# Altium schematic symbol library Reference_Voltage.SchLib: 263 symbols (part 1 of 3)
Pins are listed as number, name and electrical type; pins without a type are passive.

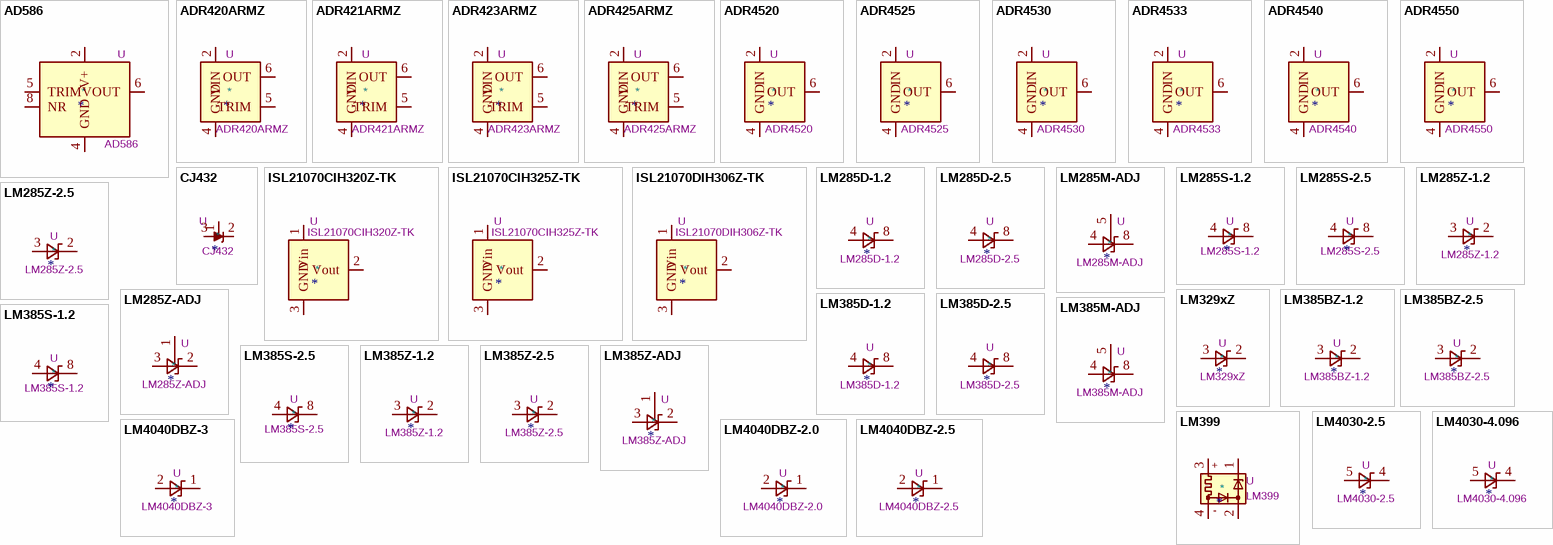
[diagram p0: symbols AD586 to LM4040DBZ-3]

## AD586
designator *  value AD586  Reference: U
ki_keywords: voltage reference; ki_description: High Precision, 5V Reference, DIP-8, SO-8; ki_fp_filters: DIP*W7.62mm* SOIC*3.9x4.9mm*P1.27mm*; Datasheet: https://www.analog.com/media/en/technical-documentation/data-sheets/AD586.pdf
pins: 1 NC hidden, 2 V+, 3 NC hidden, 4 GND, 5 TRIM, 6 VOUT, 7 NC hidden, 8 NR

## ADR420ARMZ
designator *  value ADR420ARMZ  Reference: U
ki_keywords: voltage reference Ultraprecision Low Noise; ki_description: 2.048V Voltage Reference, Ultraprecision, Low Noise, MSOP-8; ki_fp_filters: MSOP*3x3mm*P0.65mm*; Footprint: Package_SO:MSOP-8_3x3mm_P0.65mm; Datasheet: https://www.analog.com/media/en/technical-documentation/data-sheets/adr420_421_423_425.pdf
pins: 1 TP hidden, 2 VIN, 3 NC hidden, 4 GND, 5 TRIM, 6 OUT, 7 NC hidden, 8 TP hidden

## ADR421ARMZ
designator *  value ADR421ARMZ  Reference: U
ki_keywords: 2.5V voltage reference; ki_description: 2.50V Voltage Reference, Ultraprecision, Low Noise, MSOP-8; ki_fp_filters: MSOP*3x3mm*P0.65mm*; Footprint: Package_SO:MSOP-8_3x3mm_P0.65mm; Datasheet: https://www.analog.com/media/en/technical-documentation/data-sheets/adr420_421_423_425.pdf
pins: 1 TP hidden, 2 VIN, 3 NC hidden, 4 GND, 5 TRIM, 6 OUT, 7 NC hidden, 8 TP hidden

## ADR423ARMZ
designator *  value ADR423ARMZ  Reference: U
ki_keywords: 3V voltage reference; ki_description: 3.00V Voltage Reference, Ultraprecision, Low Noise, MSOP-8; ki_fp_filters: MSOP*3x3mm*P0.65mm*; Footprint: Package_SO:MSOP-8_3x3mm_P0.65mm; Datasheet: https://www.analog.com/media/en/technical-documentation/data-sheets/adr420_421_423_425.pdf
pins: 1 TP hidden, 2 VIN, 3 NC hidden, 4 GND, 5 TRIM, 6 OUT, 7 NC hidden, 8 TP hidden

## ADR425ARMZ
designator *  value ADR425ARMZ  Reference: U
ki_keywords: 5V voltage reference; ki_description: 5.00V Voltage Reference, Ultraprecision, Low Noise, MSOP-8; ki_fp_filters: MSOP*3x3mm*P0.65mm*; Footprint: Package_SO:MSOP-8_3x3mm_P0.65mm; Datasheet: https://www.analog.com/media/en/technical-documentation/data-sheets/adr420_421_423_425.pdf
pins: 1 TP hidden, 2 VIN, 3 NC hidden, 4 GND, 5 TRIM, 6 OUT, 7 NC hidden, 8 TP hidden

## ADR4520
designator *  value ADR4520  Reference: U
ki_keywords: vref; ki_description: 2.048V, Ultralow Noise, High Accuracy Voltage Reference, SOIC-8; ki_fp_filters: SOIC*3.9x4.9mm*P1.27mm*; Footprint: Package_SO:SOIC-8_3.9x4.9mm_P1.27mm; Datasheet: https://www.analog.com/media/en/technical-documentation/data-sheets/ADR4520_4525_4530_4533_4540_4550.pdf
pins: 1 NC hidden, 2 IN, 3 NC hidden, 4 GND, 5 NC hidden, 6 OUT, 7 NC hidden, 8 NC hidden

## ADR4525
designator *  value ADR4525  Reference: U
ki_keywords: vref; ki_description: 2.5V, Ultralow Noise, High Accuracy Voltage Reference, SOIC-8; ki_fp_filters: SOIC*3.9x4.9mm*P1.27mm*; Footprint: Package_SO:SOIC-8_3.9x4.9mm_P1.27mm; Datasheet: https://www.analog.com/media/en/technical-documentation/data-sheets/ADR4520_4525_4530_4533_4540_4550.pdf
pins: 1 NC hidden, 2 IN, 3 NC hidden, 4 GND, 5 NC hidden, 6 OUT, 7 NC hidden, 8 NC hidden

## ADR4530
designator *  value ADR4530  Reference: U
ki_keywords: vref; ki_description: 3.0V,  Ultralow Noise, High Accuracy Voltage Reference, SOIC-8; ki_fp_filters: SOIC*3.9x4.9mm*P1.27mm*; Footprint: Package_SO:SOIC-8_3.9x4.9mm_P1.27mm; Datasheet: https://www.analog.com/media/en/technical-documentation/data-sheets/ADR4520_4525_4530_4533_4540_4550.pdf
pins: 1 NC hidden, 2 IN, 3 NC hidden, 4 GND, 5 NC hidden, 6 OUT, 7 NC hidden, 8 NC hidden

## ADR4533
designator *  value ADR4533  Reference: U
ki_keywords: vref; ki_description: 3.3V,  Ultralow Noise, High Accuracy Voltage Reference, SOIC-8; ki_fp_filters: SOIC*3.9x4.9mm*P1.27mm*; Footprint: Package_SO:SOIC-8_3.9x4.9mm_P1.27mm; Datasheet: https://www.analog.com/media/en/technical-documentation/data-sheets/ADR4520_4525_4530_4533_4540_4550.pdf
pins: 1 NC hidden, 2 IN, 3 NC hidden, 4 GND, 5 NC hidden, 6 OUT, 7 NC hidden, 8 NC hidden

## ADR4540
designator *  value ADR4540  Reference: U
ki_keywords: vref; ki_description: 4.096V,  Ultralow Noise, High Accuracy Voltage Reference, SOIC-8; ki_fp_filters: SOIC*3.9x4.9mm*P1.27mm*; Footprint: Package_SO:SOIC-8_3.9x4.9mm_P1.27mm; Datasheet: https://www.analog.com/media/en/technical-documentation/data-sheets/ADR4520_4525_4530_4533_4540_4550.pdf
pins: 1 NC hidden, 2 IN, 3 NC hidden, 4 GND, 5 NC hidden, 6 OUT, 7 NC hidden, 8 NC hidden

## ADR4550
designator *  value ADR4550  Reference: U
ki_keywords: vref; ki_description: 5.0V,  Ultralow Noise, High Accuracy Voltage Reference, SOIC-8; ki_fp_filters: SOIC*3.9x4.9mm*P1.27mm*; Footprint: Package_SO:SOIC-8_3.9x4.9mm_P1.27mm; Datasheet: https://www.analog.com/media/en/technical-documentation/data-sheets/ADR4520_4525_4530_4533_4540_4550.pdf
pins: 1 NC hidden, 2 IN, 3 NC hidden, 4 GND, 5 NC hidden, 6 OUT, 7 NC hidden, 8 NC hidden

## CJ432
designator *  value CJ432  Reference: U
ki_keywords: diode device shunt regulator; ki_description: Shunt Regulator, SOT-23; ki_fp_filters: SOT?23*; Footprint: Package_TO_SOT_SMD:SOT-23; Datasheet: http://www.cj-elec.com/txUpfile/20134181474991806.pdf
pins: 1 REF, 2 K, 3 A

## ISL21070CIH320Z-TK
designator *  value ISL21070CIH320Z-TK  Reference: U
ki_keywords: Micropower Voltage Reference 2.0V; ki_description: 2.0V 25μA Micropower Voltage Reference, SOT-23; ki_fp_filters: SOT?23*; Footprint: Package_TO_SOT_SMD:SOT-23; Datasheet: http://www.intersil.com/content/dam/Intersil/documents/fn75/fn7599.pdf
pins: 1 Vin, 2 Vout, 3 GND

## ISL21070CIH325Z-TK
designator *  value ISL21070CIH325Z-TK  Reference: U
ki_keywords: Micropower Voltage Reference 2.5V; ki_description: 2.5V 25μA Micropower Voltage Reference, SOT-23; ki_fp_filters: SOT?23*; Footprint: Package_TO_SOT_SMD:SOT-23; Datasheet: http://www.intersil.com/content/dam/Intersil/documents/fn75/fn7599.pdf
pins: 1 Vin, 2 Vout, 3 GND

## ISL21070DIH306Z-TK
designator *  value ISL21070DIH306Z-TK  Reference: U
ki_keywords: Micropower Voltage Reference 0.6V; ki_description: 0.6V 25μA Micropower Voltage Reference, SOT-23; ki_fp_filters: SOT?23*; Footprint: Package_TO_SOT_SMD:SOT-23; Datasheet: http://www.intersil.com/content/dam/Intersil/documents/fn75/fn7599.pdf
pins: 1 Vin, 2 Vout, 3 GND

## LM285D-1.2
designator *  value LM285D-1.2  Reference: U
ki_keywords: diode device voltage reference; ki_description: 1.235V Micropower Voltage Reference Diodes, SO-8; ki_fp_filters: SOIC?8*3.9x4.9m*P1.27mm*; Footprint: Package_SO:SOIC-8_3.9x4.9mm_P1.27mm; Datasheet: http://www.onsemi.com/pub_link/Collateral/LM285-D.PDF
pins: 4 A, 8 K

## LM285D-2.5
designator *  value LM285D-2.5  Reference: U
ki_keywords: diode device voltage reference; ki_description: 2.500V Micropower Voltage Reference Diodes, SO-8; ki_fp_filters: SOIC?8*3.9x4.9m*P1.27mm*; Footprint: Package_SO:SOIC-8_3.9x4.9mm_P1.27mm; Datasheet: http://www.onsemi.com/pub_link/Collateral/LM285-D.PDF
pins: 4 A, 8 K

## LM285M-ADJ
designator *  value LM285M-ADJ  Reference: U
ki_keywords: diode device voltage reference; ki_description: Adjustable Micropower Voltage Reference Diodes, SO-8; ki_fp_filters: SOIC?8*3.9x4.9m*P1.27mm*; Footprint: Package_SO:SOIC-8_3.9x4.9mm_P1.27mm; Datasheet: http://www.ti.com/lit/ds/symlink/lm185-adj.pdf
pins: 4 A, 5 FB, 8 K

## LM285S-1.2
designator *  value LM285S-1.2  Reference: U
ki_keywords: diode device voltage reference; ki_description: 1.235V Micropower Voltage Reference Diodes, SO-8; ki_fp_filters: SOIC?8*3.9x4.9m*P1.27mm*; Footprint: Package_SO:SOIC-8_3.9x4.9mm_P1.27mm; Datasheet: https://www.analog.com/media/en/technical-documentation/data-sheets/185fc.pdf
pins: 4 A, 6 K hidden, 8 K

## LM285S-2.5
designator *  value LM285S-2.5  Reference: U
ki_keywords: diode device voltage reference; ki_description: 2.500V Micropower Voltage Reference Diodes, SO-8; ki_fp_filters: SOIC?8*3.9x4.9m*P1.27mm*; Footprint: Package_SO:SOIC-8_3.9x4.9mm_P1.27mm; Datasheet: https://www.analog.com/media/en/technical-documentation/data-sheets/185fc.pdf
pins: 4 A, 6 K hidden, 8 K

## LM285Z-1.2
designator *  value LM285Z-1.2  Reference: U
ki_keywords: diode device voltage reference; ki_description: 1.235V Micropower Voltage Reference Diodes, TO-92; ki_fp_filters: TO?92*Inline*; Footprint: Package_TO_SOT_THT:TO-92_Inline; Datasheet: http://www.onsemi.com/pub_link/Collateral/LM285-D.PDF
pins: 2 K, 3 A

## LM285Z-2.5
designator *  value LM285Z-2.5  Reference: U
ki_keywords: diode device voltage reference; ki_description: 2.5V Micropower Voltage Reference Diodes, TO-92; ki_fp_filters: TO?92*Inline*; Footprint: Package_TO_SOT_THT:TO-92_Inline; Datasheet: http://www.onsemi.com/pub_link/Collateral/LM285-D.PDF
pins: 2 K, 3 A

## LM285Z-ADJ
designator *  value LM285Z-ADJ  Reference: U
ki_keywords: diode device voltage reference; ki_description: Adjustable Micropower Voltage Reference Diodes, TO-92; ki_fp_filters: TO?92*; Footprint: Package_TO_SOT_THT:TO-92_Inline; Datasheet: http://www.ti.com/lit/ds/symlink/lm185-adj.pdf
pins: 1 FB, 2 K, 3 A

## LM329xZ
designator *  value LM329xZ  Reference: U
ki_keywords: diode device voltage reference shunt; ki_description: 6.9V Precision Voltage Reference, TO-92; ki_fp_filters: TO?92*; Footprint: Package_TO_SOT_THT:TO-92_Inline; Datasheet: https://www.analog.com/media/en/technical-documentation/data-sheets/129329fd.pdf
pins: 1 NC hidden, 2 K, 3 A

## LM385BZ-1.2
designator *  value LM385BZ-1.2  Reference: U
ki_keywords: diode device voltage reference; ki_description: 1.235V Micropower Voltage Reference Diodes, TO-92; ki_fp_filters: TO?92*Inline*; Footprint: Package_TO_SOT_THT:TO-92_Inline; Datasheet: http://www.onsemi.com/pub_link/Collateral/LM285-D.PDF
pins: 2 K, 3 A

## LM385BZ-2.5
designator *  value LM385BZ-2.5  Reference: U
ki_keywords: diode device voltage reference; ki_description: 2.5V Micropower Voltage Reference Diodes, TO-92; ki_fp_filters: TO?92*Inline*; Footprint: Package_TO_SOT_THT:TO-92_Inline; Datasheet: http://www.onsemi.com/pub_link/Collateral/LM285-D.PDF
pins: 2 K, 3 A

## LM385D-1.2
designator *  value LM385D-1.2  Reference: U
ki_keywords: diode device voltage reference; ki_description: 1.235V Micropower Voltage Reference Diodes, SO-8; ki_fp_filters: SOIC?8*3.9x4.9m*P1.27mm*; Footprint: Package_SO:SOIC-8_3.9x4.9mm_P1.27mm; Datasheet: http://www.onsemi.com/pub_link/Collateral/LM285-D.PDF
pins: 4 A, 8 K

## LM385D-2.5
designator *  value LM385D-2.5  Reference: U
ki_keywords: diode device voltage reference; ki_description: 2.500V Micropower Voltage Reference Diodes, SO-8; ki_fp_filters: SOIC?8*3.9x4.9m*P1.27mm*; Footprint: Package_SO:SOIC-8_3.9x4.9mm_P1.27mm; Datasheet: http://www.onsemi.com/pub_link/Collateral/LM285-D.PDF
pins: 4 A, 8 K

## LM385M-ADJ
designator *  value LM385M-ADJ  Reference: U
ki_keywords: diode device voltage reference; ki_description: Adjustable Micropower Voltage Reference Diodes, SO-8; ki_fp_filters: SOIC?8*3.9x4.9m*P1.27mm*; Footprint: Package_SO:SOIC-8_3.9x4.9mm_P1.27mm; Datasheet: http://www.ti.com/lit/ds/symlink/lm185-adj.pdf
pins: 4 A, 5 FB, 8 K

## LM385S-1.2
designator *  value LM385S-1.2  Reference: U
ki_keywords: diode device voltage reference; ki_description: 1.235V Micropower Voltage Reference Diodes, SO-8; ki_fp_filters: SOIC?8*3.9x4.9m*P1.27mm*; Footprint: Package_SO:SOIC-8_3.9x4.9mm_P1.27mm; Datasheet: https://www.analog.com/media/en/technical-documentation/data-sheets/185fc.pdf
pins: 4 A, 6 K hidden, 8 K

## LM385S-2.5
designator *  value LM385S-2.5  Reference: U
ki_keywords: diode device voltage reference; ki_description: 2.500V Micropower Voltage Reference Diodes, SO-8; ki_fp_filters: SOIC?8*3.9x4.9m*P1.27mm*; Footprint: Package_SO:SOIC-8_3.9x4.9mm_P1.27mm; Datasheet: https://www.analog.com/media/en/technical-documentation/data-sheets/185fc.pdf
pins: 4 A, 6 K hidden, 8 K

## LM385Z-1.2
designator *  value LM385Z-1.2  Reference: U
ki_keywords: diode device voltage reference; ki_description: 1.235V Micropower Voltage Reference Diodes, TO-92; ki_fp_filters: TO?92*Inline*; Footprint: Package_TO_SOT_THT:TO-92_Inline; Datasheet: http://www.onsemi.com/pub_link/Collateral/LM285-D.PDF
pins: 2 K, 3 A

## LM385Z-2.5
designator *  value LM385Z-2.5  Reference: U
ki_keywords: diode device voltage reference; ki_description: 2.5V Micropower Voltage Reference Diodes, TO-92; ki_fp_filters: TO?92*Inline*; Footprint: Package_TO_SOT_THT:TO-92_Inline; Datasheet: http://www.onsemi.com/pub_link/Collateral/LM285-D.PDF
pins: 2 K, 3 A

## LM385Z-ADJ
designator *  value LM385Z-ADJ  Reference: U
ki_keywords: diode device voltage reference; ki_description: Adjustable Micropower Voltage Reference Diodes, TO-92; ki_fp_filters: TO?92*; Footprint: Package_TO_SOT_THT:TO-92_Inline; Datasheet: http://www.ti.com/lit/ds/symlink/lm185-adj.pdf
pins: 1 FB, 2 K, 3 A

## LM399
designator *  value LM399  Reference: U
ki_keywords: Zener diode device voltage reference; ki_description: Precision Reference, 6.95V, Buried Zener Diode with Thermal Shielding Can, TO-46-4; ki_fp_filters: Analog*TO?46*; Footprint: Package_TO_SOT_THT:Analog_TO-46-4_ThermalShield; Datasheet: https://www.analog.com/media/en/technical-documentation/data-sheets/199399fc.pdf
pins: 1, 2, 3, 4
text: +; -

## LM4030-2.5
designator *  value LM4030-2.5  Reference: U
ki_keywords: diode device voltage reference shunt; ki_description: 2.500V Ultra-High Precision Shunt Voltage Reference, SOT-23-5; ki_fp_filters: SOT?23?5*; Footprint: Package_TO_SOT_SMD:SOT-23-5; Datasheet: http://www.ti.com/lit/ds/symlink/lm4030.pdf
pins: 4 K, 5 A

## LM4030-4.096
designator *  value LM4030-4.096  Reference: U
ki_keywords: diode device voltage reference shunt; ki_description: 4.096V Ultra-High Precision Shunt Voltage Reference, SOT-23-5; ki_fp_filters: SOT?23?5*; Footprint: Package_TO_SOT_SMD:SOT-23-5; Datasheet: http://www.ti.com/lit/ds/symlink/lm4030.pdf
pins: 4 K, 5 A

## LM4040DBZ-2.0
designator *  value LM4040DBZ-2.0  Reference: U
ki_keywords: diode device voltage reference shunt; ki_description: 2.048V Precision Micropower Shunt Voltage Reference, SOT-23; ki_fp_filters: SOT?23*; Footprint: Package_TO_SOT_SMD:SOT-23; Datasheet: http://www.ti.com/lit/ds/symlink/lm4040-n.pdf
pins: 1 K, 2 A

## LM4040DBZ-2.5
designator *  value LM4040DBZ-2.5  Reference: U
ki_keywords: diode device voltage reference shunt; ki_description: 2.500V Precision Micropower Shunt Voltage Reference, SOT-23; ki_fp_filters: SOT?23*; Footprint: Package_TO_SOT_SMD:SOT-23; Datasheet: http://www.ti.com/lit/ds/symlink/lm4040-n.pdf
pins: 1 K, 2 A

## LM4040DBZ-3
designator *  value LM4040DBZ-3  Reference: U
ki_keywords: diode device voltage reference shunt; ki_description: 3.000V Precision Micropower Shunt Voltage Reference, SOT-23; ki_fp_filters: SOT?23*; Footprint: Package_TO_SOT_SMD:SOT-23; Datasheet: http://www.ti.com/lit/ds/symlink/lm4040-n.pdf
pins: 1 K, 2 A

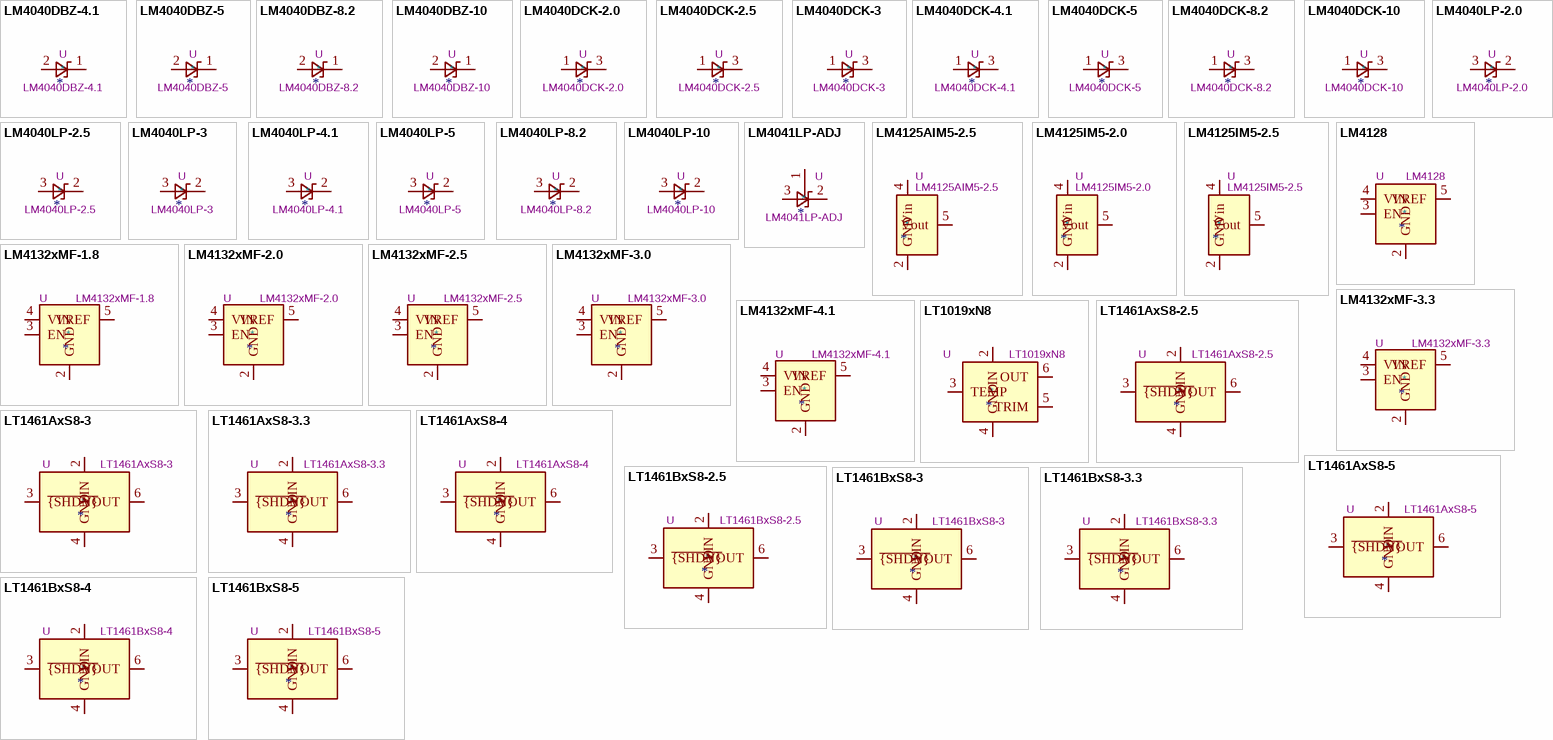
[diagram p1: symbols LM4040DBZ-4.1 to LT1461BxS8-5]

## LM4040DBZ-4.1
designator *  value LM4040DBZ-4.1  Reference: U
ki_keywords: diode device voltage reference shunt; ki_description: 4.096V Precision Micropower Shunt Voltage Reference, SOT-23; ki_fp_filters: SOT?23*; Footprint: Package_TO_SOT_SMD:SOT-23; Datasheet: http://www.ti.com/lit/ds/symlink/lm4040-n.pdf
pins: 1 K, 2 A

## LM4040DBZ-5
designator *  value LM4040DBZ-5  Reference: U
ki_keywords: diode device voltage reference shunt; ki_description: 5.000V Precision Micropower Shunt Voltage Reference, SOT-23; ki_fp_filters: SOT?23*; Footprint: Package_TO_SOT_SMD:SOT-23; Datasheet: http://www.ti.com/lit/ds/symlink/lm4040-n.pdf
pins: 1 K, 2 A

## LM4040DBZ-8.2
designator *  value LM4040DBZ-8.2  Reference: U
ki_keywords: diode device voltage reference shunt; ki_description: 8.192V Precision Micropower Shunt Voltage Reference, SOT-23; ki_fp_filters: SOT?23*; Footprint: Package_TO_SOT_SMD:SOT-23; Datasheet: http://www.ti.com/lit/ds/symlink/lm4040-n.pdf
pins: 1 K, 2 A

## LM4040DBZ-10
designator *  value LM4040DBZ-10  Reference: U
ki_keywords: diode device voltage reference shunt; ki_description: 10.00V Precision Micropower Shunt Voltage Reference, SOT-23; ki_fp_filters: SOT?23*; Footprint: Package_TO_SOT_SMD:SOT-23; Datasheet: http://www.ti.com/lit/ds/symlink/lm4040-n.pdf
pins: 1 K, 2 A

## LM4040DCK-2.0
designator *  value LM4040DCK-2.0  Reference: U
ki_keywords: diode device voltage reference shunt; ki_description: 2.048V Precision Micropower Shunt Voltage Reference, SC-70; ki_fp_filters: SOT?353*; Footprint: Package_TO_SOT_SMD:SOT-353_SC-70-5; Datasheet: http://www.ti.com/lit/ds/symlink/lm4040-n.pdf
pins: 1 A, 3 K

## LM4040DCK-2.5
designator *  value LM4040DCK-2.5  Reference: U
ki_keywords: diode device voltage reference shunt; ki_description: 2.500V Precision Micropower Shunt Voltage Reference, SC-70; ki_fp_filters: SOT?353*; Footprint: Package_TO_SOT_SMD:SOT-353_SC-70-5; Datasheet: http://www.ti.com/lit/ds/symlink/lm4040-n.pdf
pins: 1 A, 3 K

## LM4040DCK-3
designator *  value LM4040DCK-3  Reference: U
ki_keywords: diode device voltage reference shunt; ki_description: 3.000V Precision Micropower Shunt Voltage Reference, SC-70; ki_fp_filters: SOT?353*; Footprint: Package_TO_SOT_SMD:SOT-353_SC-70-5; Datasheet: http://www.ti.com/lit/ds/symlink/lm4040-n.pdf
pins: 1 A, 3 K

## LM4040DCK-4.1
designator *  value LM4040DCK-4.1  Reference: U
ki_keywords: diode device voltage reference shunt; ki_description: 4.096V Precision Micropower Shunt Voltage Reference, SC-70; ki_fp_filters: SOT?353*; Footprint: Package_TO_SOT_SMD:SOT-353_SC-70-5; Datasheet: http://www.ti.com/lit/ds/symlink/lm4040-n.pdf
pins: 1 A, 3 K

## LM4040DCK-5
designator *  value LM4040DCK-5  Reference: U
ki_keywords: diode device voltage reference shunt; ki_description: 5.000V Precision Micropower Shunt Voltage Reference, SC-70; ki_fp_filters: SOT?353*; Footprint: Package_TO_SOT_SMD:SOT-353_SC-70-5; Datasheet: http://www.ti.com/lit/ds/symlink/lm4040-n.pdf
pins: 1 A, 3 K

## LM4040DCK-8.2
designator *  value LM4040DCK-8.2  Reference: U
ki_keywords: diode device voltage reference shunt; ki_description: 8.192V Precision Micropower Shunt Voltage Reference, SC-70; ki_fp_filters: SOT?353*; Footprint: Package_TO_SOT_SMD:SOT-353_SC-70-5; Datasheet: http://www.ti.com/lit/ds/symlink/lm4040-n.pdf
pins: 1 A, 3 K

## LM4040DCK-10
designator *  value LM4040DCK-10  Reference: U
ki_keywords: diode device voltage reference shunt; ki_description: 10.0V Precision Micropower Shunt Voltage Reference, SC-70; ki_fp_filters: SOT?353*; Footprint: Package_TO_SOT_SMD:SOT-353_SC-70-5; Datasheet: http://www.ti.com/lit/ds/symlink/lm4040-n.pdf
pins: 1 A, 3 K

## LM4040LP-2.0
designator *  value LM4040LP-2.0  Reference: U
ki_keywords: diode device voltage reference shunt; ki_description: 2.048V Precision Micropower Shunt Voltage Reference, TO-92; ki_fp_filters: TO?92*Inline*; Footprint: Package_TO_SOT_THT:TO-92_Inline; Datasheet: http://www.ti.com/lit/ds/symlink/lm4040-n.pdf
pins: 2 K, 3 A

## LM4040LP-2.5
designator *  value LM4040LP-2.5  Reference: U
ki_keywords: diode device voltage reference shunt; ki_description: 2.500V Precision Micropower Shunt Voltage Reference, TO-92; ki_fp_filters: TO?92*Inline*; Footprint: Package_TO_SOT_THT:TO-92_Inline; Datasheet: http://www.ti.com/lit/ds/symlink/lm4040-n.pdf
pins: 2 K, 3 A

## LM4040LP-3
designator *  value LM4040LP-3  Reference: U
ki_keywords: diode device voltage reference shunt; ki_description: 3.000V Precision Micropower Shunt Voltage Reference, TO-92; ki_fp_filters: TO?92*Inline*; Footprint: Package_TO_SOT_THT:TO-92_Inline; Datasheet: http://www.ti.com/lit/ds/symlink/lm4040-n.pdf
pins: 2 K, 3 A

## LM4040LP-4.1
designator *  value LM4040LP-4.1  Reference: U
ki_keywords: diode device voltage reference shunt; ki_description: 4.096V Precision Micropower Shunt Voltage Reference, TO-92; ki_fp_filters: TO?92*Inline*; Footprint: Package_TO_SOT_THT:TO-92_Inline; Datasheet: http://www.ti.com/lit/ds/symlink/lm4040-n.pdf
pins: 2 K, 3 A

## LM4040LP-5
designator *  value LM4040LP-5  Reference: U
ki_keywords: diode device voltage reference shunt; ki_description: 5.000V Precision Micropower Shunt Voltage Reference, TO-92; ki_fp_filters: TO?92*Inline*; Footprint: Package_TO_SOT_THT:TO-92_Inline; Datasheet: http://www.ti.com/lit/ds/symlink/lm4040-n.pdf
pins: 2 K, 3 A

## LM4040LP-8.2
designator *  value LM4040LP-8.2  Reference: U
ki_keywords: diode device voltage reference shunt; ki_description: 8.192V Precision Micropower Shunt Voltage Reference, TO-92; ki_fp_filters: TO?92*Inline*; Footprint: Package_TO_SOT_THT:TO-92_Inline; Datasheet: http://www.ti.com/lit/ds/symlink/lm4040-n.pdf
pins: 2 K, 3 A

## LM4040LP-10
designator *  value LM4040LP-10  Reference: U
ki_keywords: diode device voltage reference shunt; ki_description: 10.00V Precision Micropower Shunt Voltage Reference, TO-92; ki_fp_filters: TO?92*Inline*; Footprint: Package_TO_SOT_THT:TO-92_Inline; Datasheet: http://www.ti.com/lit/ds/symlink/lm4040-n.pdf
pins: 2 K, 3 A

## LM4041LP-ADJ
designator *  value LM4041LP-ADJ  Reference: U
ki_keywords: diode device voltage reference shunt; ki_description: Adjustable Precision Micropower Shunt Voltage Reference, TO-92; ki_fp_filters: TO?92*; Footprint: Package_TO_SOT_THT:TO-92_Inline; Datasheet: http://www.ti.com/lit/ds/symlink/lm4041-n.pdf
pins: 1 FB, 2 K, 3 A

## LM4125AIM5-2.5
designator *  value LM4125AIM5-2.5  Reference: U
ki_keywords: Precision Micropower Low Dropout Voltage Reference 2.5V; ki_description: 2.5V ±0.2% Precision Micropower Low Dropout Voltage Reference, SOT-23-5; ki_fp_filters: SOT?23*; Footprint: Package_TO_SOT_SMD:SOT-23-5; Datasheet: http://www.ti.com/lit/ds/symlink/lm4125.pdf
pins: 1 NC hidden, 2 GND, 3 NC hidden, 4 Vin, 5 Vout

## LM4125IM5-2.0
designator *  value LM4125IM5-2.0  Reference: U
ki_keywords: Precision Micropower Low Dropout Voltage Reference 2V; ki_description: 2V ±0.5% Precision Micropower Low Dropout Voltage Reference, SOT-23-5; ki_fp_filters: SOT?23*; Footprint: Package_TO_SOT_SMD:SOT-23-5; Datasheet: http://www.ti.com/lit/ds/symlink/lm4125.pdf
pins: 1 NC hidden, 2 GND, 3 NC hidden, 4 Vin, 5 Vout

## LM4125IM5-2.5
designator *  value LM4125IM5-2.5  Reference: U
ki_keywords: Precision Micropower Low Dropout Voltage Reference 2.5V; ki_description: 2.5V ±0.5% Precision Micropower Low Dropout Voltage Reference, SOT-23-5; ki_fp_filters: SOT?23*; Footprint: Package_TO_SOT_SMD:SOT-23-5; Datasheet: http://www.ti.com/lit/ds/symlink/lm4125.pdf
pins: 1 NC hidden, 2 GND, 3 NC hidden, 4 Vin, 5 Vout

## LM4128
designator *  value LM4128  Reference: U
ki_keywords: Precision Micropower Low Dropout Voltage Reference 2.5V; ki_description: 2.5V ±0.2% Precision Micropower Low Dropout Voltage Reference, SOT-23-5; ki_fp_filters: SOT?23*; Footprint: Package_TO_SOT_SMD:SOT-23-5; Datasheet: http://www.ti.com/lit/ds/symlink/lm4128.pdf
pins: 1 NC hidden, 2 GND, 3 EN, 4 VIN, 5 VREF

## LM4132xMF-1.8
designator *  value LM4132xMF-1.8  Reference: U
ki_keywords: Precision Low Dropout Voltage Reference 1.8V; ki_description: Precision Low Dropout Voltage Reference, 1.8V, ±0.05% to ±0.5%, SOT-23-5; ki_fp_filters: SOT?23*; Footprint: Package_TO_SOT_SMD:SOT-23-5; Datasheet: http://www.ti.com/lit/ds/symlink/lm4132.pdf
pins: 1 NC hidden, 2 GND, 3 EN, 4 VIN, 5 VREF

## LM4132xMF-2.0
designator *  value LM4132xMF-2.0  Reference: U
ki_keywords: Precision Low Dropout Voltage Reference 2.048V; ki_description: Precision Low Dropout Voltage Reference, 2.048V, ±0.05% to ±0.5%, SOT-23-5; ki_fp_filters: SOT?23*; Footprint: Package_TO_SOT_SMD:SOT-23-5; Datasheet: http://www.ti.com/lit/ds/symlink/lm4132.pdf
pins: 1 NC hidden, 2 GND, 3 EN, 4 VIN, 5 VREF

## LM4132xMF-2.5
designator *  value LM4132xMF-2.5  Reference: U
ki_keywords: Precision Low Dropout Voltage Reference 2.5V; ki_description: Precision Low Dropout Voltage Reference, 2.5V, ±0.05% to ±0.5%, SOT-23-5; ki_fp_filters: SOT?23*; Footprint: Package_TO_SOT_SMD:SOT-23-5; Datasheet: http://www.ti.com/lit/ds/symlink/lm4132.pdf
pins: 1 NC hidden, 2 GND, 3 EN, 4 VIN, 5 VREF

## LM4132xMF-3.0
designator *  value LM4132xMF-3.0  Reference: U
ki_keywords: Precision Low Dropout Voltage Reference 3.0V; ki_description: Precision Low Dropout Voltage Reference, 3.0V, ±0.05% to ±0.5%, SOT-23-5; ki_fp_filters: SOT?23*; Footprint: Package_TO_SOT_SMD:SOT-23-5; Datasheet: http://www.ti.com/lit/ds/symlink/lm4132.pdf
pins: 1 NC hidden, 2 GND, 3 EN, 4 VIN, 5 VREF

## LM4132xMF-3.3
designator *  value LM4132xMF-3.3  Reference: U
ki_keywords: Precision Low Dropout Voltage Reference 3.3V; ki_description: Precision Low Dropout Voltage Reference, 3.3V, ±0.05% to ±0.5%, SOT-23-5; ki_fp_filters: SOT?23*; Footprint: Package_TO_SOT_SMD:SOT-23-5; Datasheet: http://www.ti.com/lit/ds/symlink/lm4132.pdf
pins: 1 NC hidden, 2 GND, 3 EN, 4 VIN, 5 VREF

## LM4132xMF-4.1
designator *  value LM4132xMF-4.1  Reference: U
ki_keywords: Precision Low Dropout Voltage Reference 4.096V; ki_description: Precision Low Dropout Voltage Reference, 4.096V, ±0.05% to ±0.5%, SOT-23-5; ki_fp_filters: SOT?23*; Footprint: Package_TO_SOT_SMD:SOT-23-5; Datasheet: http://www.ti.com/lit/ds/symlink/lm4132.pdf
pins: 1 NC hidden, 2 GND, 3 EN, 4 VIN, 5 VREF

## LT1019xN8
designator *  value LT1019xN8  Reference: U
ki_keywords: voltage reference vref; ki_description: Precision Reference, Ultra Low Drift, DIP-8; ki_fp_filters: DIP*W7.62mm*; Footprint: Package_DIP:DIP-8_W7.62mm; Datasheet: https://www.analog.com/media/en/technical-documentation/data-sheets/1019fd.pdf
pins: 1 DNC hidden, 2 IN, 3 TEMP, 4 GND, 5 TRIM, 6 OUT, 7 DNC hidden, 8 DNC hidden

## LT1461AxS8-2.5
designator *  value LT1461AxS8-2.5  Reference: U
ki_keywords: voltage reference precision; ki_description: Voltage Reference, +/-0.04%, 2.5V, 100mA, 3V-20V Vin, SOIC-8; ki_fp_filters: SOIC*3.9x4.9mm*P1.27mm*; Footprint: Package_SO:SOIC-8_3.9x4.9mm_P1.27mm; Datasheet: https://www.analog.com/media/en/technical-documentation/data-sheets/LT1461.pdf
pins: 1 DNC hidden, 2 VIN, 3 ~{{SHDN}}, 4 GND, 5 DNC hidden, 6 VOUT, 7 DNC hidden, 8 DNC hidden

## LT1461AxS8-3
designator *  value LT1461AxS8-3  Reference: U
ki_keywords: voltage reference precision; ki_description: Voltage Reference, +/-0.04%, 3V, 100mA, 3.5V-20V Vin, SOIC-8; ki_fp_filters: SOIC*3.9x4.9mm*P1.27mm*; Footprint: Package_SO:SOIC-8_3.9x4.9mm_P1.27mm; Datasheet: https://www.analog.com/media/en/technical-documentation/data-sheets/LT1461.pdf
pins: 1 DNC hidden, 2 VIN, 3 ~{{SHDN}}, 4 GND, 5 DNC hidden, 6 VOUT, 7 DNC hidden, 8 DNC hidden

## LT1461AxS8-3.3
designator *  value LT1461AxS8-3.3  Reference: U
ki_keywords: voltage reference precision; ki_description: Voltage Reference, +/-0.04%, 3.3V, 100mA, 3.8V-20V Vin, SOIC-8; ki_fp_filters: SOIC*3.9x4.9mm*P1.27mm*; Footprint: Package_SO:SOIC-8_3.9x4.9mm_P1.27mm; Datasheet: https://www.analog.com/media/en/technical-documentation/data-sheets/LT1461.pdf
pins: 1 DNC hidden, 2 VIN, 3 ~{{SHDN}}, 4 GND, 5 DNC hidden, 6 VOUT, 7 DNC hidden, 8 DNC hidden

## LT1461AxS8-4
designator *  value LT1461AxS8-4  Reference: U
ki_keywords: voltage reference precision; ki_description: Voltage Reference, +/-0.04%, 4.096V, 100mA, 4.596V-20V Vin, SOIC-8; ki_fp_filters: SOIC*3.9x4.9mm*P1.27mm*; Footprint: Package_SO:SOIC-8_3.9x4.9mm_P1.27mm; Datasheet: https://www.analog.com/media/en/technical-documentation/data-sheets/LT1461.pdf
pins: 1 DNC hidden, 2 VIN, 3 ~{{SHDN}}, 4 GND, 5 DNC hidden, 6 VOUT, 7 DNC hidden, 8 DNC hidden

## LT1461AxS8-5
designator *  value LT1461AxS8-5  Reference: U
ki_keywords: voltage reference precision; ki_description: Voltage Reference, +/-0.04%, 5V, 100mA, 5.5V-20V Vin, SOIC-8; ki_fp_filters: SOIC*3.9x4.9mm*P1.27mm*; Footprint: Package_SO:SOIC-8_3.9x4.9mm_P1.27mm; Datasheet: https://www.analog.com/media/en/technical-documentation/data-sheets/LT1461.pdf
pins: 1 DNC hidden, 2 VIN, 3 ~{{SHDN}}, 4 GND, 5 DNC hidden, 6 VOUT, 7 DNC hidden, 8 DNC hidden

## LT1461BxS8-2.5
designator *  value LT1461BxS8-2.5  Reference: U
ki_keywords: voltage reference precision; ki_description: Voltage Reference, +/-0.06%, 2.5V, 100mA, 3V-20V Vin, SOIC-8; ki_fp_filters: SOIC*3.9x4.9mm*P1.27mm*; Footprint: Package_SO:SOIC-8_3.9x4.9mm_P1.27mm; Datasheet: https://www.analog.com/media/en/technical-documentation/data-sheets/LT1461.pdf
pins: 1 DNC hidden, 2 VIN, 3 ~{{SHDN}}, 4 GND, 5 DNC hidden, 6 VOUT, 7 DNC hidden, 8 DNC hidden

## LT1461BxS8-3
designator *  value LT1461BxS8-3  Reference: U
ki_keywords: voltage reference precision; ki_description: Voltage Reference, +/-0.06%, 3V, 100mA, 3.5V-20V Vin, SOIC-8; ki_fp_filters: SOIC*3.9x4.9mm*P1.27mm*; Footprint: Package_SO:SOIC-8_3.9x4.9mm_P1.27mm; Datasheet: https://www.analog.com/media/en/technical-documentation/data-sheets/LT1461.pdf
pins: 1 DNC hidden, 2 VIN, 3 ~{{SHDN}}, 4 GND, 5 DNC hidden, 6 VOUT, 7 DNC hidden, 8 DNC hidden

## LT1461BxS8-3.3
designator *  value LT1461BxS8-3.3  Reference: U
ki_keywords: voltage reference precision; ki_description: Voltage Reference, +/-0.06%, 3.3V, 100mA, 3.8V-20V Vin, SOIC-8; ki_fp_filters: SOIC*3.9x4.9mm*P1.27mm*; Footprint: Package_SO:SOIC-8_3.9x4.9mm_P1.27mm; Datasheet: https://www.analog.com/media/en/technical-documentation/data-sheets/LT1461.pdf
pins: 1 DNC hidden, 2 VIN, 3 ~{{SHDN}}, 4 GND, 5 DNC hidden, 6 VOUT, 7 DNC hidden, 8 DNC hidden

## LT1461BxS8-4
designator *  value LT1461BxS8-4  Reference: U
ki_keywords: voltage reference precision; ki_description: Voltage Reference, +/-0.06%, 4.096V, 100mA, 4.596V-20V Vin, SOIC-8; ki_fp_filters: SOIC*3.9x4.9mm*P1.27mm*; Footprint: Package_SO:SOIC-8_3.9x4.9mm_P1.27mm; Datasheet: https://www.analog.com/media/en/technical-documentation/data-sheets/LT1461.pdf
pins: 1 DNC hidden, 2 VIN, 3 ~{{SHDN}}, 4 GND, 5 DNC hidden, 6 VOUT, 7 DNC hidden, 8 DNC hidden

## LT1461BxS8-5
designator *  value LT1461BxS8-5  Reference: U
ki_keywords: voltage reference precision; ki_description: Voltage Reference, +/-0.06%, 5V, 100mA, 5.5V-20V Vin, SOIC-8; ki_fp_filters: SOIC*3.9x4.9mm*P1.27mm*; Footprint: Package_SO:SOIC-8_3.9x4.9mm_P1.27mm; Datasheet: https://www.analog.com/media/en/technical-documentation/data-sheets/LT1461.pdf
pins: 1 DNC hidden, 2 VIN, 3 ~{{SHDN}}, 4 GND, 5 DNC hidden, 6 VOUT, 7 DNC hidden, 8 DNC hidden

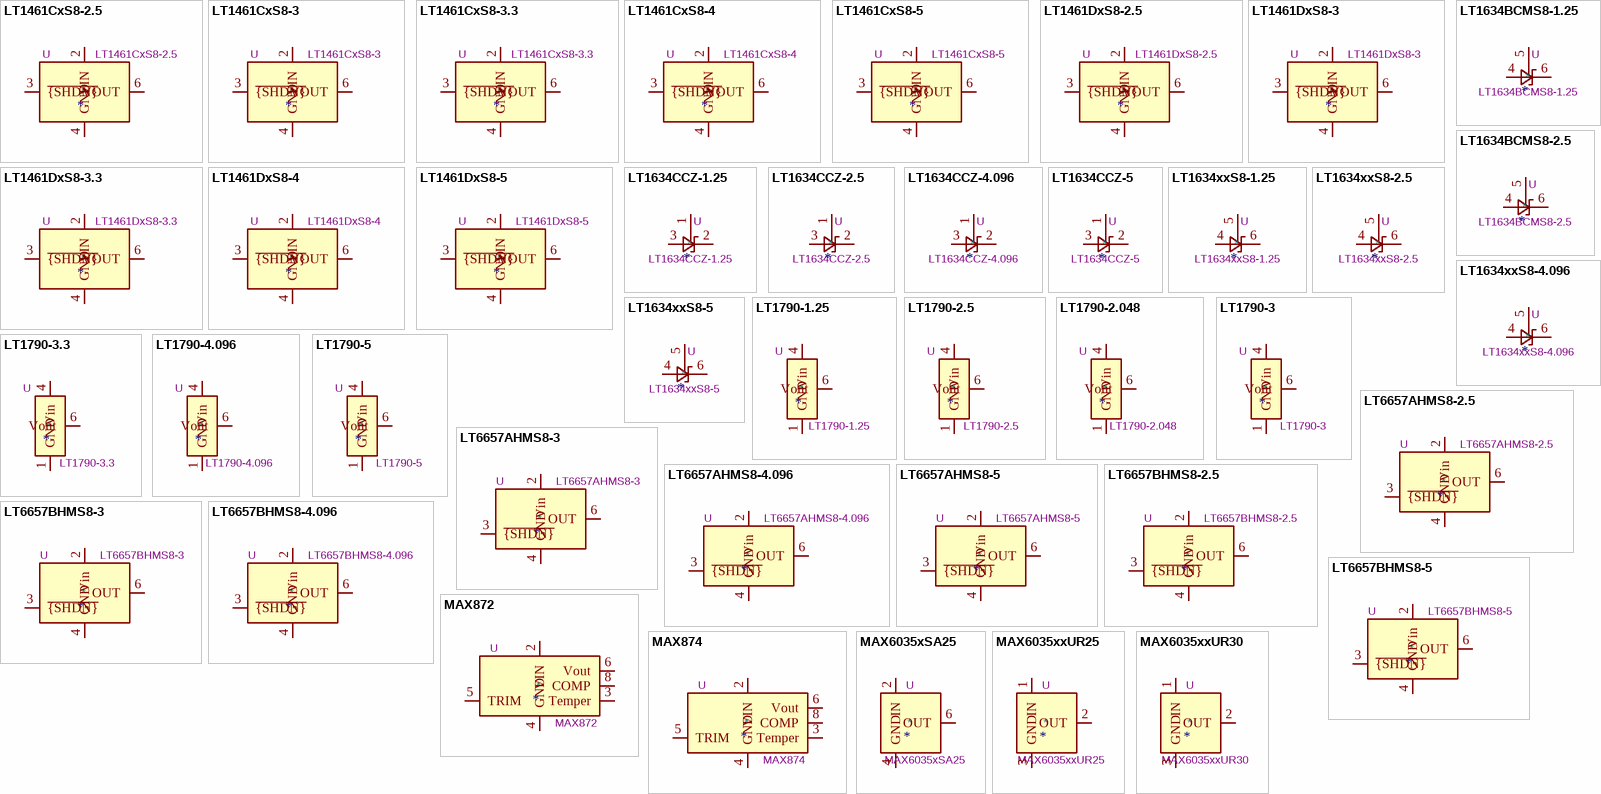
[diagram p2: symbols LT1461CxS8-2.5 to MAX6035xxUR30]

## LT1461CxS8-2.5
designator *  value LT1461CxS8-2.5  Reference: U
ki_keywords: voltage reference precision; ki_description: Voltage Reference, +/-0.08%, 2.5V, 100mA, 3V-20V Vin, SOIC-8; ki_fp_filters: SOIC*3.9x4.9mm*P1.27mm*; Footprint: Package_SO:SOIC-8_3.9x4.9mm_P1.27mm; Datasheet: https://www.analog.com/media/en/technical-documentation/data-sheets/LT1461.pdf
pins: 1 DNC hidden, 2 VIN, 3 ~{{SHDN}}, 4 GND, 5 DNC hidden, 6 VOUT, 7 DNC hidden, 8 DNC hidden

## LT1461CxS8-3
designator *  value LT1461CxS8-3  Reference: U
ki_keywords: voltage reference precision; ki_description: Voltage Reference, +/-0.08%, 3V, 100mA, 3.5V-20V Vin, SOIC-8; ki_fp_filters: SOIC*3.9x4.9mm*P1.27mm*; Footprint: Package_SO:SOIC-8_3.9x4.9mm_P1.27mm; Datasheet: https://www.analog.com/media/en/technical-documentation/data-sheets/LT1461.pdf
pins: 1 DNC hidden, 2 VIN, 3 ~{{SHDN}}, 4 GND, 5 DNC hidden, 6 VOUT, 7 DNC hidden, 8 DNC hidden

## LT1461CxS8-3.3
designator *  value LT1461CxS8-3.3  Reference: U
ki_keywords: voltage reference precision; ki_description: Voltage Reference, +/-0.08%, 3.3V, 100mA, 3.8V-20V Vin, SOIC-8; ki_fp_filters: SOIC*3.9x4.9mm*P1.27mm*; Footprint: Package_SO:SOIC-8_3.9x4.9mm_P1.27mm; Datasheet: https://www.analog.com/media/en/technical-documentation/data-sheets/LT1461.pdf
pins: 1 DNC hidden, 2 VIN, 3 ~{{SHDN}}, 4 GND, 5 DNC hidden, 6 VOUT, 7 DNC hidden, 8 DNC hidden

## LT1461CxS8-4
designator *  value LT1461CxS8-4  Reference: U
ki_keywords: voltage reference precision; ki_description: Voltage Reference, +/-0.08%, 4.096V, 100mA, 4.596V-20V Vin, SOIC-8; ki_fp_filters: SOIC*3.9x4.9mm*P1.27mm*; Footprint: Package_SO:SOIC-8_3.9x4.9mm_P1.27mm; Datasheet: https://www.analog.com/media/en/technical-documentation/data-sheets/LT1461.pdf
pins: 1 DNC hidden, 2 VIN, 3 ~{{SHDN}}, 4 GND, 5 DNC hidden, 6 VOUT, 7 DNC hidden, 8 DNC hidden

## LT1461CxS8-5
designator *  value LT1461CxS8-5  Reference: U
ki_keywords: voltage reference precision; ki_description: Voltage Reference, +/-0.08%, 5V, 100mA, 5.5V-20V Vin, SOIC-8; ki_fp_filters: SOIC*3.9x4.9mm*P1.27mm*; Footprint: Package_SO:SOIC-8_3.9x4.9mm_P1.27mm; Datasheet: https://www.analog.com/media/en/technical-documentation/data-sheets/LT1461.pdf
pins: 1 DNC hidden, 2 VIN, 3 ~{{SHDN}}, 4 GND, 5 DNC hidden, 6 VOUT, 7 DNC hidden, 8 DNC hidden

## LT1461DxS8-2.5
designator *  value LT1461DxS8-2.5  Reference: U
ki_keywords: voltage reference precision; ki_description: Voltage Reference, +/-0.15%, 2.5V, 100mA, 3V-20V Vin, SOIC-8; ki_fp_filters: SOIC*3.9x4.9mm*P1.27mm*; Footprint: Package_SO:SOIC-8_3.9x4.9mm_P1.27mm; Datasheet: https://www.analog.com/media/en/technical-documentation/data-sheets/LT1461.pdf
pins: 1 DNC hidden, 2 VIN, 3 ~{{SHDN}}, 4 GND, 5 DNC hidden, 6 VOUT, 7 DNC hidden, 8 DNC hidden

## LT1461DxS8-3
designator *  value LT1461DxS8-3  Reference: U
ki_keywords: voltage reference precision; ki_description: Voltage Reference, +/-0.15%, 3V, 100mA, 3.5V-20V Vin, SOIC-8; ki_fp_filters: SOIC*3.9x4.9mm*P1.27mm*; Footprint: Package_SO:SOIC-8_3.9x4.9mm_P1.27mm; Datasheet: https://www.analog.com/media/en/technical-documentation/data-sheets/LT1461.pdf
pins: 1 DNC hidden, 2 VIN, 3 ~{{SHDN}}, 4 GND, 5 DNC hidden, 6 VOUT, 7 DNC hidden, 8 DNC hidden

## LT1461DxS8-3.3
designator *  value LT1461DxS8-3.3  Reference: U
ki_keywords: voltage reference precision; ki_description: Voltage Reference, +/-0.15%, 3.3V, 100mA, 3.8V-20V Vin, SOIC-8; ki_fp_filters: SOIC*3.9x4.9mm*P1.27mm*; Footprint: Package_SO:SOIC-8_3.9x4.9mm_P1.27mm; Datasheet: https://www.analog.com/media/en/technical-documentation/data-sheets/LT1461.pdf
pins: 1 DNC hidden, 2 VIN, 3 ~{{SHDN}}, 4 GND, 5 DNC hidden, 6 VOUT, 7 DNC hidden, 8 DNC hidden

## LT1461DxS8-4
designator *  value LT1461DxS8-4  Reference: U
ki_keywords: voltage reference precision; ki_description: Voltage Reference, +/-0.15%, 4.096V, 100mA, 4.596V-20V Vin, SOIC-8; ki_fp_filters: SOIC*3.9x4.9mm*P1.27mm*; Footprint: Package_SO:SOIC-8_3.9x4.9mm_P1.27mm; Datasheet: https://www.analog.com/media/en/technical-documentation/data-sheets/LT1461.pdf
pins: 1 DNC hidden, 2 VIN, 3 ~{{SHDN}}, 4 GND, 5 DNC hidden, 6 VOUT, 7 DNC hidden, 8 DNC hidden

## LT1461DxS8-5
designator *  value LT1461DxS8-5  Reference: U
ki_keywords: voltage reference precision; ki_description: Voltage Reference, +/-0.15%, 5V, 100mA, 5.5V-20V Vin, SOIC-8; ki_fp_filters: SOIC*3.9x4.9mm*P1.27mm*; Footprint: Package_SO:SOIC-8_3.9x4.9mm_P1.27mm; Datasheet: https://www.analog.com/media/en/technical-documentation/data-sheets/LT1461.pdf
pins: 1 DNC hidden, 2 VIN, 3 ~{{SHDN}}, 4 GND, 5 DNC hidden, 6 VOUT, 7 DNC hidden, 8 DNC hidden

## LT1634BCMS8-1.25
designator *  value LT1634BCMS8-1.25  Reference: U
ki_keywords: voltage reference Micropower; ki_description: 1.25V Micropower Precision Shunt Voltage Reference, MSOP-8; ki_fp_filters: MSOP?8*3x3mm*P0.65mm*; Footprint: Package_SO:MSOP-8_3x3mm_P0.65mm; Datasheet: https://www.analog.com/media/en/technical-documentation/data-sheets/1634ff.pdf
pins: 4 A, 5 Test, 6 K

## LT1634BCMS8-2.5
designator *  value LT1634BCMS8-2.5  Reference: U
ki_keywords: voltage reference Micropower; ki_description: 2.5V Micropower Precision Shunt Voltage Reference, MSOP-8; ki_fp_filters: MSOP?8*3x3mm*P0.65mm*; Footprint: Package_SO:MSOP-8_3x3mm_P0.65mm; Datasheet: https://www.analog.com/media/en/technical-documentation/data-sheets/1634ff.pdf
pins: 4 A, 5 Test, 6 K

## LT1634CCZ-1.25
designator *  value LT1634CCZ-1.25  Reference: U
ki_keywords: voltage reference Micropower; ki_description: 1.25V Micropower Precision Shunt Voltage Reference, TO-92; ki_fp_filters: TO?92*; Footprint: Package_TO_SOT_THT:TO-92_Inline; Datasheet: https://www.analog.com/media/en/technical-documentation/data-sheets/1634ff.pdf
pins: 1 Test, 2 K, 3 A

## LT1634CCZ-2.5
designator *  value LT1634CCZ-2.5  Reference: U
ki_keywords: voltage reference Micropower; ki_description: 2.5V Micropower Precision Shunt Voltage Reference, TO-92; ki_fp_filters: TO?92*; Footprint: Package_TO_SOT_THT:TO-92_Inline; Datasheet: https://www.analog.com/media/en/technical-documentation/data-sheets/1634ff.pdf
pins: 1 Test, 2 K, 3 A

## LT1634CCZ-4.096
designator *  value LT1634CCZ-4.096  Reference: U
ki_keywords: voltage reference Micropower; ki_description: 4.096V Micropower Precision Shunt Voltage Reference, TO-92; ki_fp_filters: TO?92*; Footprint: Package_TO_SOT_THT:TO-92_Inline; Datasheet: https://www.analog.com/media/en/technical-documentation/data-sheets/1634ff.pdf
pins: 1 Test, 2 K, 3 A

## LT1634CCZ-5
designator *  value LT1634CCZ-5  Reference: U
ki_keywords: voltage reference Micropower; ki_description: 5V Micropower Precision Shunt Voltage Reference, TO-92; ki_fp_filters: TO?92*; Footprint: Package_TO_SOT_THT:TO-92_Inline; Datasheet: https://www.analog.com/media/en/technical-documentation/data-sheets/1634ff.pdf
pins: 1 Test, 2 K, 3 A

## LT1634xxS8-1.25
designator *  value LT1634xxS8-1.25  Reference: U
ki_keywords: voltage reference Micropower; ki_description: 1.25V Micropower Precision Shunt Voltage Reference, SO-8; ki_fp_filters: SO?8*3.9x4.9mm*P1.27mm*; Footprint: Package_SO:SO-8_3.9x4.9mm_P1.27mm; Datasheet: https://www.analog.com/media/en/technical-documentation/data-sheets/1634ff.pdf
pins: 4 A, 5 Test, 6 K

## LT1634xxS8-2.5
designator *  value LT1634xxS8-2.5  Reference: U
ki_keywords: voltage reference Micropower; ki_description: 2.5V Micropower Precision Shunt Voltage Reference, SO-8; ki_fp_filters: SO?8*3.9x4.9mm*P1.27mm*; Footprint: Package_SO:SO-8_3.9x4.9mm_P1.27mm; Datasheet: https://www.analog.com/media/en/technical-documentation/data-sheets/1634ff.pdf
pins: 4 A, 5 Test, 6 K

## LT1634xxS8-4.096
designator *  value LT1634xxS8-4.096  Reference: U
ki_keywords: voltage reference Micropower; ki_description: 4.096V Micropower Precision Shunt Voltage Reference, SO-8; ki_fp_filters: SO?8*3.9x4.9mm*P1.27mm*; Footprint: Package_SO:SO-8_3.9x4.9mm_P1.27mm; Datasheet: https://www.analog.com/media/en/technical-documentation/data-sheets/1634ff.pdf
pins: 4 A, 5 Test, 6 K

## LT1634xxS8-5
designator *  value LT1634xxS8-5  Reference: U
ki_keywords: voltage reference Micropower; ki_description: 5V Micropower Precision Shunt Voltage Reference, SO-8; ki_fp_filters: SO?8*3.9x4.9mm*P1.27mm*; Footprint: Package_SO:SO-8_3.9x4.9mm_P1.27mm; Datasheet: https://www.analog.com/media/en/technical-documentation/data-sheets/1634ff.pdf
pins: 4 A, 5 Test, 6 K

## LT1790-1.25
designator *  value LT1790-1.25  Reference: U
ki_keywords: voltage reference Micropower; ki_description: 1.25V Voltage Reference, Low Dropout, Micropower, TSOT-23-6; ki_fp_filters: TSOT?23?6*; Footprint: Package_TO_SOT_SMD:TSOT-23-6; Datasheet: https://www.analog.com/media/en/technical-documentation/data-sheets/1790fc.pdf
pins: 1 GND, 2 GND hidden, 4 Vin, 6 Vout

## LT1790-2.5
designator *  value LT1790-2.5  Reference: U
ki_keywords: voltage reference Micropower; ki_description: 2.5V Voltage Reference, Low Dropout, Micropower, TSOT-23-6; ki_fp_filters: TSOT?23?6*; Footprint: Package_TO_SOT_SMD:TSOT-23-6; Datasheet: https://www.analog.com/media/en/technical-documentation/data-sheets/1790fc.pdf
pins: 1 GND, 2 GND hidden, 4 Vin, 6 Vout

## LT1790-2.048
designator *  value LT1790-2.048  Reference: U
ki_keywords: voltage reference Micropower; ki_description: 2.048V Voltage Reference, Low Dropout, Micropower, TSOT-23-6; ki_fp_filters: TSOT?23?6*; Footprint: Package_TO_SOT_SMD:TSOT-23-6; Datasheet: https://www.analog.com/media/en/technical-documentation/data-sheets/1790fc.pdf
pins: 1 GND, 2 GND hidden, 4 Vin, 6 Vout

## LT1790-3
designator *  value LT1790-3  Reference: U
ki_keywords: voltage reference Micropower; ki_description: 3V Voltage Reference, Low Dropout, Micropower, TSOT-23-6; ki_fp_filters: TSOT?23?6*; Footprint: Package_TO_SOT_SMD:TSOT-23-6; Datasheet: https://www.analog.com/media/en/technical-documentation/data-sheets/1790fc.pdf
pins: 1 GND, 2 GND hidden, 4 Vin, 6 Vout

## LT1790-3.3
designator *  value LT1790-3.3  Reference: U
ki_keywords: voltage reference Micropower; ki_description: 3.3V Voltage Reference, Low Dropout, Micropower, TSOT-23-6; ki_fp_filters: TSOT?23?6*; Footprint: Package_TO_SOT_SMD:TSOT-23-6; Datasheet: https://www.analog.com/media/en/technical-documentation/data-sheets/1790fc.pdf
pins: 1 GND, 2 GND hidden, 4 Vin, 6 Vout

## LT1790-4.096
designator *  value LT1790-4.096  Reference: U
ki_keywords: voltage reference Micropower; ki_description: 4.096V Voltage Reference, Low Dropout, Micropower, TSOT-23-6; ki_fp_filters: TSOT?23?6*; Footprint: Package_TO_SOT_SMD:TSOT-23-6; Datasheet: https://www.analog.com/media/en/technical-documentation/data-sheets/1790fc.pdf
pins: 1 GND, 2 GND hidden, 4 Vin, 6 Vout

## LT1790-5
designator *  value LT1790-5  Reference: U
ki_keywords: voltage reference Micropower; ki_description: 5V Voltage Reference, Low Dropout, Micropower, TSOT-23-6; ki_fp_filters: TSOT?23?6*; Footprint: Package_TO_SOT_SMD:TSOT-23-6; Datasheet: https://www.analog.com/media/en/technical-documentation/data-sheets/1790fc.pdf
pins: 1 GND, 2 GND hidden, 4 Vin, 6 Vout

## LT6657AHMS8-2.5
designator *  value LT6657AHMS8-2.5  Reference: U
ki_keywords: voltage reference vref; ki_description: Precision voltage reference, 40V input, 10mA output, 1.5ppm/C drift, 2.5V output, MSOP-8; ki_fp_filters: MSOP*3x3mm*P0.65mm*; Footprint: Package_SO:MSOP-8_3x3mm_P0.65mm; Datasheet: https://www.analog.com/media/en/technical-documentation/data-sheets/6657fd.pdf
pins: 1 DNC hidden, 2 Vin, 3 ~{{SHDN}}, 4 GND, 5 DNC hidden, 6 OUT, 7 DNC hidden, 8 DNC hidden

## LT6657AHMS8-3
designator *  value LT6657AHMS8-3  Reference: U
ki_keywords: voltage reference vref; ki_description: Precision voltage reference, 40V input, 10mA output, 1.5ppm/C drift, 3.0V output, MSOP-8; ki_fp_filters: MSOP*3x3mm*P0.65mm*; Footprint: Package_SO:MSOP-8_3x3mm_P0.65mm; Datasheet: https://www.analog.com/media/en/technical-documentation/data-sheets/6657fd.pdf
pins: 1 DNC hidden, 2 Vin, 3 ~{{SHDN}}, 4 GND, 5 DNC hidden, 6 OUT, 7 DNC hidden, 8 DNC hidden

## LT6657AHMS8-4.096
designator *  value LT6657AHMS8-4.096  Reference: U
ki_keywords: voltage reference vref; ki_description: Precision voltage reference, 40V input, 10mA output, 1.5ppm/C drift, 4.096V output, MSOP-8; ki_fp_filters: MSOP*3x3mm*P0.65mm*; Footprint: Package_SO:MSOP-8_3x3mm_P0.65mm; Datasheet: https://www.analog.com/media/en/technical-documentation/data-sheets/6657fd.pdf
pins: 1 DNC hidden, 2 Vin, 3 ~{{SHDN}}, 4 GND, 5 DNC hidden, 6 OUT, 7 DNC hidden, 8 DNC hidden

## LT6657AHMS8-5
designator *  value LT6657AHMS8-5  Reference: U
ki_keywords: voltage reference vref; ki_description: Precision voltage reference, 40V input, 10mA output, 1.5ppm/C drift, 5.0V output, MSOP-8; ki_fp_filters: MSOP*3x3mm*P0.65mm*; Footprint: Package_SO:MSOP-8_3x3mm_P0.65mm; Datasheet: https://www.analog.com/media/en/technical-documentation/data-sheets/6657fd.pdf
pins: 1 DNC hidden, 2 Vin, 3 ~{{SHDN}}, 4 GND, 5 DNC hidden, 6 OUT, 7 DNC hidden, 8 DNC hidden

## LT6657BHMS8-2.5
designator *  value LT6657BHMS8-2.5  Reference: U
ki_keywords: voltage reference vref; ki_description: Precision voltage reference, 40V input, 10mA output, 3.0ppm/C drift, 2.5V output, MSOP-8; ki_fp_filters: MSOP*3x3mm*P0.65mm*; Footprint: Package_SO:MSOP-8_3x3mm_P0.65mm; Datasheet: https://www.analog.com/media/en/technical-documentation/data-sheets/6657fd.pdf
pins: 1 DNC hidden, 2 Vin, 3 ~{{SHDN}}, 4 GND, 5 DNC hidden, 6 OUT, 7 DNC hidden, 8 DNC hidden

## LT6657BHMS8-3
designator *  value LT6657BHMS8-3  Reference: U
ki_keywords: voltage reference vref; ki_description: Precision voltage reference, 40V input, 10mA output, 3.0ppm/C drift, 3.0V output, MSOP-8; ki_fp_filters: MSOP*3x3mm*P0.65mm*; Footprint: Package_SO:MSOP-8_3x3mm_P0.65mm; Datasheet: https://www.analog.com/media/en/technical-documentation/data-sheets/6657fd.pdf
pins: 1 DNC hidden, 2 Vin, 3 ~{{SHDN}}, 4 GND, 5 DNC hidden, 6 OUT, 7 DNC hidden, 8 DNC hidden

## LT6657BHMS8-4.096
designator *  value LT6657BHMS8-4.096  Reference: U
ki_keywords: voltage reference vref; ki_description: Precision voltage reference, 40V input, 10mA output, 3ppm/C drift, 4.096V output, MSOP-8; ki_fp_filters: MSOP*3x3mm*P0.65mm*; Footprint: Package_SO:MSOP-8_3x3mm_P0.65mm; Datasheet: https://www.analog.com/media/en/technical-documentation/data-sheets/6657fd.pdf
pins: 1 DNC hidden, 2 Vin, 3 ~{{SHDN}}, 4 GND, 5 DNC hidden, 6 OUT, 7 DNC hidden, 8 DNC hidden

## LT6657BHMS8-5
designator *  value LT6657BHMS8-5  Reference: U
ki_keywords: voltage reference vref; ki_description: Precision voltage reference, 40V input, 10mA output, 3.0ppm/C drift, 5.0V output, MSOP-8; ki_fp_filters: MSOP*3x3mm*P0.65mm*; Footprint: Package_SO:MSOP-8_3x3mm_P0.65mm; Datasheet: https://www.analog.com/media/en/technical-documentation/data-sheets/6657fd.pdf
pins: 1 DNC hidden, 2 Vin, 3 ~{{SHDN}}, 4 GND, 5 DNC hidden, 6 OUT, 7 DNC hidden, 8 DNC hidden

## MAX872
designator *  value MAX872  Reference: U
ki_keywords: Low-Dropout Precision Voltage Reference; ki_description: 10µA Low-Dropout Precision Voltage Reference, SO-8/DIP-8; ki_fp_filters: DIP*W7.62mm* SOIC*3.9x4.9mm*P1.27mm*; Datasheet: https://pdfserv.maximintegrated.com/en/ds/MAX872-MAX874.pdf
pins: 1 IC hidden, 2 VIN, 3 Temper, 4 GND, 5 TRIM, 6 Vout, 7 IC hidden, 8 COMP

## MAX874
designator *  value MAX874  Reference: U
ki_keywords: Low-Dropout Precision Voltage Reference; ki_description: 10µA Low-Dropout Precision Voltage Reference, SO-8/DIP-8; ki_fp_filters: DIP*W7.62mm* SOIC*3.9x4.9mm*P1.27mm*; Datasheet: https://pdfserv.maximintegrated.com/en/ds/MAX872-MAX874.pdf
pins: 1 IC hidden, 2 VIN, 3 Temper, 4 GND, 5 TRIM, 6 Vout, 7 IC hidden, 8 COMP

## MAX6035xSA25
designator *  value MAX6035xSA25  Reference: U
ki_keywords: vref; ki_description: 2.5V, High-Supply-Voltage, Precision Voltage Reference, SOIC-8; ki_fp_filters: SOIC*3.9x4.9mm*P1.27mm*; Footprint: Package_SO:SOIC-8_3.9x4.9mm_P1.27mm; Datasheet: https://datasheets.maximintegrated.com/en/ds/MAX6035.pdf
pins: 1 NC hidden, 2 IN, 3 NC hidden, 4 GND, 5 NC hidden, 6 OUT, 7 NC hidden, 8 NC hidden

## MAX6035xxUR25
designator *  value MAX6035xxUR25  Reference: U
ki_keywords: vref; ki_description: 2.5V, High-Supply-Voltage, Precision Voltage Reference, SOT-23; ki_fp_filters: SOT?23*; Footprint: Package_TO_SOT_SMD:SOT-23; Datasheet: https://datasheets.maximintegrated.com/en/ds/MAX6035.pdf
pins: 1 IN, 2 OUT, 3 GND

## MAX6035xxUR30
designator *  value MAX6035xxUR30  Reference: U
ki_keywords: vref; ki_description: 3V, High-Supply-Voltage, Precision Voltage Reference, SOT-23; ki_fp_filters: SOT?23*; Footprint: Package_TO_SOT_SMD:SOT-23; Datasheet: https://datasheets.maximintegrated.com/en/ds/MAX6035.pdf
pins: 1 IN, 2 OUT, 3 GND

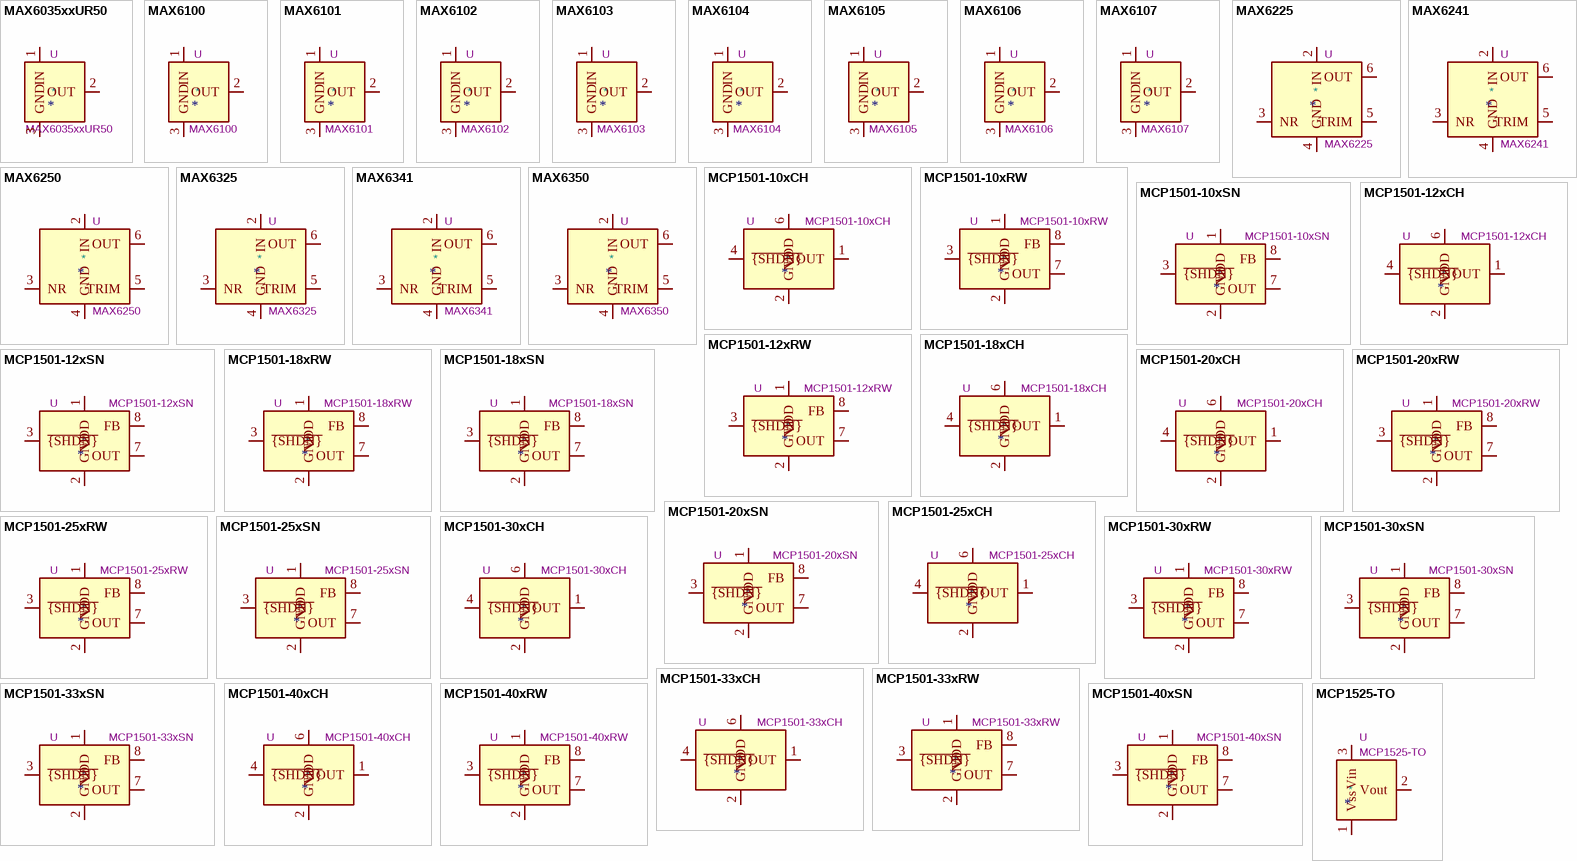
[diagram p3: symbols MAX6035xxUR50 to MCP1525-TO]

## MAX6035xxUR50
designator *  value MAX6035xxUR50  Reference: U
ki_keywords: vref; ki_description: 5V, High-Supply-Voltage, Precision Voltage Reference, SOT-23; ki_fp_filters: SOT?23*; Footprint: Package_TO_SOT_SMD:SOT-23; Datasheet: https://datasheets.maximintegrated.com/en/ds/MAX6035.pdf
pins: 1 IN, 2 OUT, 3 GND

## MAX6100
designator *  value MAX6100  Reference: U
ki_keywords: voltage reference ldo; ki_description: Low-dropout high current voltage reference, 1.800V, ±0.4% accuracy, SOT-23; ki_fp_filters: SOT?23*; Footprint: Package_TO_SOT_SMD:SOT-23; Datasheet: http://datasheets.maximintegrated.com/en/ds/MAX6100-MAX6107.pdf
pins: 1 IN, 2 OUT, 3 GND

## MAX6101
designator *  value MAX6101  Reference: U
ki_keywords: voltage reference ldo; ki_description: Low-dropout high current voltage reference, 1.250V, ±0.4% accuracy, SOT-23; ki_fp_filters: SOT?23*; Footprint: Package_TO_SOT_SMD:SOT-23; Datasheet: http://datasheets.maximintegrated.com/en/ds/MAX6100-MAX6107.pdf
pins: 1 IN, 2 OUT, 3 GND

## MAX6102
designator *  value MAX6102  Reference: U
ki_keywords: voltage reference ldo; ki_description: Low-dropout high current voltage reference, 2.500V, ±0.4% accuracy, SOT-23; ki_fp_filters: SOT?23*; Footprint: Package_TO_SOT_SMD:SOT-23; Datasheet: http://datasheets.maximintegrated.com/en/ds/MAX6100-MAX6107.pdf
pins: 1 IN, 2 OUT, 3 GND

## MAX6103
designator *  value MAX6103  Reference: U
ki_keywords: voltage reference ldo; ki_description: Low-dropout high current voltage reference, 3.000V, ±0.4% accuracy, SOT-23; ki_fp_filters: SOT?23*; Footprint: Package_TO_SOT_SMD:SOT-23; Datasheet: http://datasheets.maximintegrated.com/en/ds/MAX6100-MAX6107.pdf
pins: 1 IN, 2 OUT, 3 GND

## MAX6104
designator *  value MAX6104  Reference: U
ki_keywords: voltage reference ldo; ki_description: Low-dropout high current voltage reference, 4.096V, ±0.4% accuracy, SOT-23; ki_fp_filters: SOT?23*; Footprint: Package_TO_SOT_SMD:SOT-23; Datasheet: http://datasheets.maximintegrated.com/en/ds/MAX6100-MAX6107.pdf
pins: 1 IN, 2 OUT, 3 GND

## MAX6105
designator *  value MAX6105  Reference: U
ki_keywords: voltage reference ldo; ki_description: Low-dropout high current voltage reference, 5.000V, ±0.4% accuracy, SOT-23; ki_fp_filters: SOT?23*; Footprint: Package_TO_SOT_SMD:SOT-23; Datasheet: http://datasheets.maximintegrated.com/en/ds/MAX6100-MAX6107.pdf
pins: 1 IN, 2 OUT, 3 GND

## MAX6106
designator *  value MAX6106  Reference: U
ki_keywords: voltage reference ldo; ki_description: Low-dropout high current voltage reference, 2.048V, ±0.4% accuracy, SOT-23; ki_fp_filters: SOT?23*; Footprint: Package_TO_SOT_SMD:SOT-23; Datasheet: http://datasheets.maximintegrated.com/en/ds/MAX6100-MAX6107.pdf
pins: 1 IN, 2 OUT, 3 GND